# Altium footprint library ESP32P.PcbLib: 1 footprints
Each footprint in its own frame and in the unit in brackets; x right, y up, seen from the top. Pads: shape width x height; smd on the part's side, far side on the other; paste and mask are expansions set on the pad; w line width, h text height; cw(c..) or ccw(c..) is an arc to the next point about the centre after c.
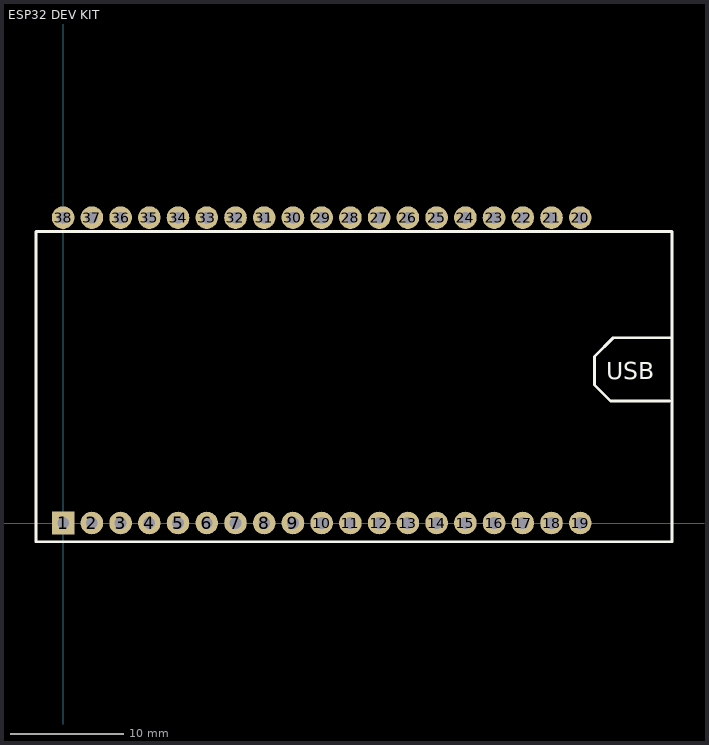
[diagram p0: the footprint, top view; thin cyan lines are the x and y axes]

## ESP32 DEV KIT [mm]
pads (38):
  rect 2x2 hole 1.03: 1(0,0)
  round 2 hole 1.03: 2(2.54,0) 3(5.08,0) 4(7.62,0) 5(10.16,0) 6(12.7,0) 7(15.24,0) 8(17.78,0) 9(20.32,0) 10(22.86,0) 11(25.4,0) 12(27.94,0) 13(30.48,0) 14(33.02,0) 15(35.56,0) 16(38.1,0) 17(40.64,0) 18(43.18,0) 19(45.72,0) 20(45.72,27) 21(43.18,27) 22(40.64,27) 23(38.1,27) 24(35.56,27) 25(33.02,27) 26(30.48,27) 27(27.94,27) 28(25.4,27) 29(22.86,27) 30(20.32,27) 31(17.78,27) 32(15.24,27) 33(12.7,27) 34(10.16,27) 35(7.62,27) 36(5.08,27) 37(2.54,27) 38(0,27)
Top Overlay:
  lines w0.254: 53.594,10.795 48.387,10.795 46.99,12.192 46.99,14.732 48.641,16.383 53.721,16.383 ; -2.413,-1.651 53.848,-1.651 53.848,25.781 -2.413,25.781 -2.413,-1.651
  text "USB" at 48.006,12.7 h1.52
3D body "NodeMCU-32S-USBC-38pin-Narrow.stp": height 8.3, standoff -4.6, extent -1.081,0.791 50.419,26.641